# Altium footprint library JST-GHs 1.25 3Pole.PcbLib: 1 footprints
Each footprint in its own frame and in the unit in brackets; x right, y up, seen from the top. Pads: shape width x height; smd on the part's side, far side on the other; paste and mask are expansions set on the pad; w line width, h text height; cw(c..) or ccw(c..) is an arc to the next point about the centre after c.
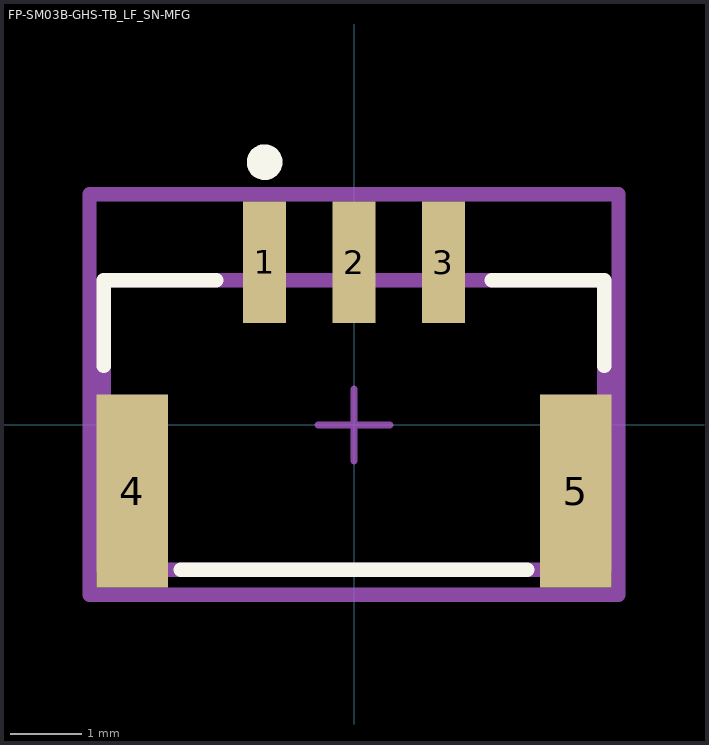
[diagram p0: the footprint, top view; thin cyan lines are the x and y axes]

## FP-SM03B-GHS-TB_LF_SN-MFG [mm]
pads (5):
  rect 0.6x1.7 smd paste+0 mask+0: 1(-1.25,2.275) 2(0,2.275) 3(1.25,2.275)
  rect 1x2.7 smd paste+0 mask+0: 4(-3.1,-0.925) 5(3.1,-0.925)
Top Overlay:
  circle w0.25: c-1.25,3.675 r0.125
  lines w0.2: -3.5,0.825 -3.5,2.025 -1.925,2.025 ; -2.425,-2.025 2.425,-2.025 ; 1.925,2.025 3.5,2.025 3.5,0.825
Top Assembly:
  lines w0.2: -3.7,-2.375 -3.7,3.225 3.7,3.225 3.7,-2.375 -3.7,-2.375
  text ".Designator" at 0,0.613 h1
Top 3D Body:
  lines w0.2: -3.5,-2.025 -3.5,2.025 3.5,2.025 3.5,-2.025 -3.5,-2.025
Top Courtyard:
  lines w0.2: -3.7,-2.375 -3.7,3.225 3.7,3.225 3.7,-2.375 -3.7,-2.375
Top Component Center:
  lines w0.1: -0.5,0 0.5,0 ; 0,-0.5 0,0.5
3D body "Conn_JST_SM03B-GHS-TB_LF_SN_eec.STEP": height 0.25, standoff 0, extent -3.7,-2.375 3.7,3.225